# Altium schematic symbol library kmilo17pet-LT_PMIC_LT.SchLib: 2252 symbols (part 10 of 124)
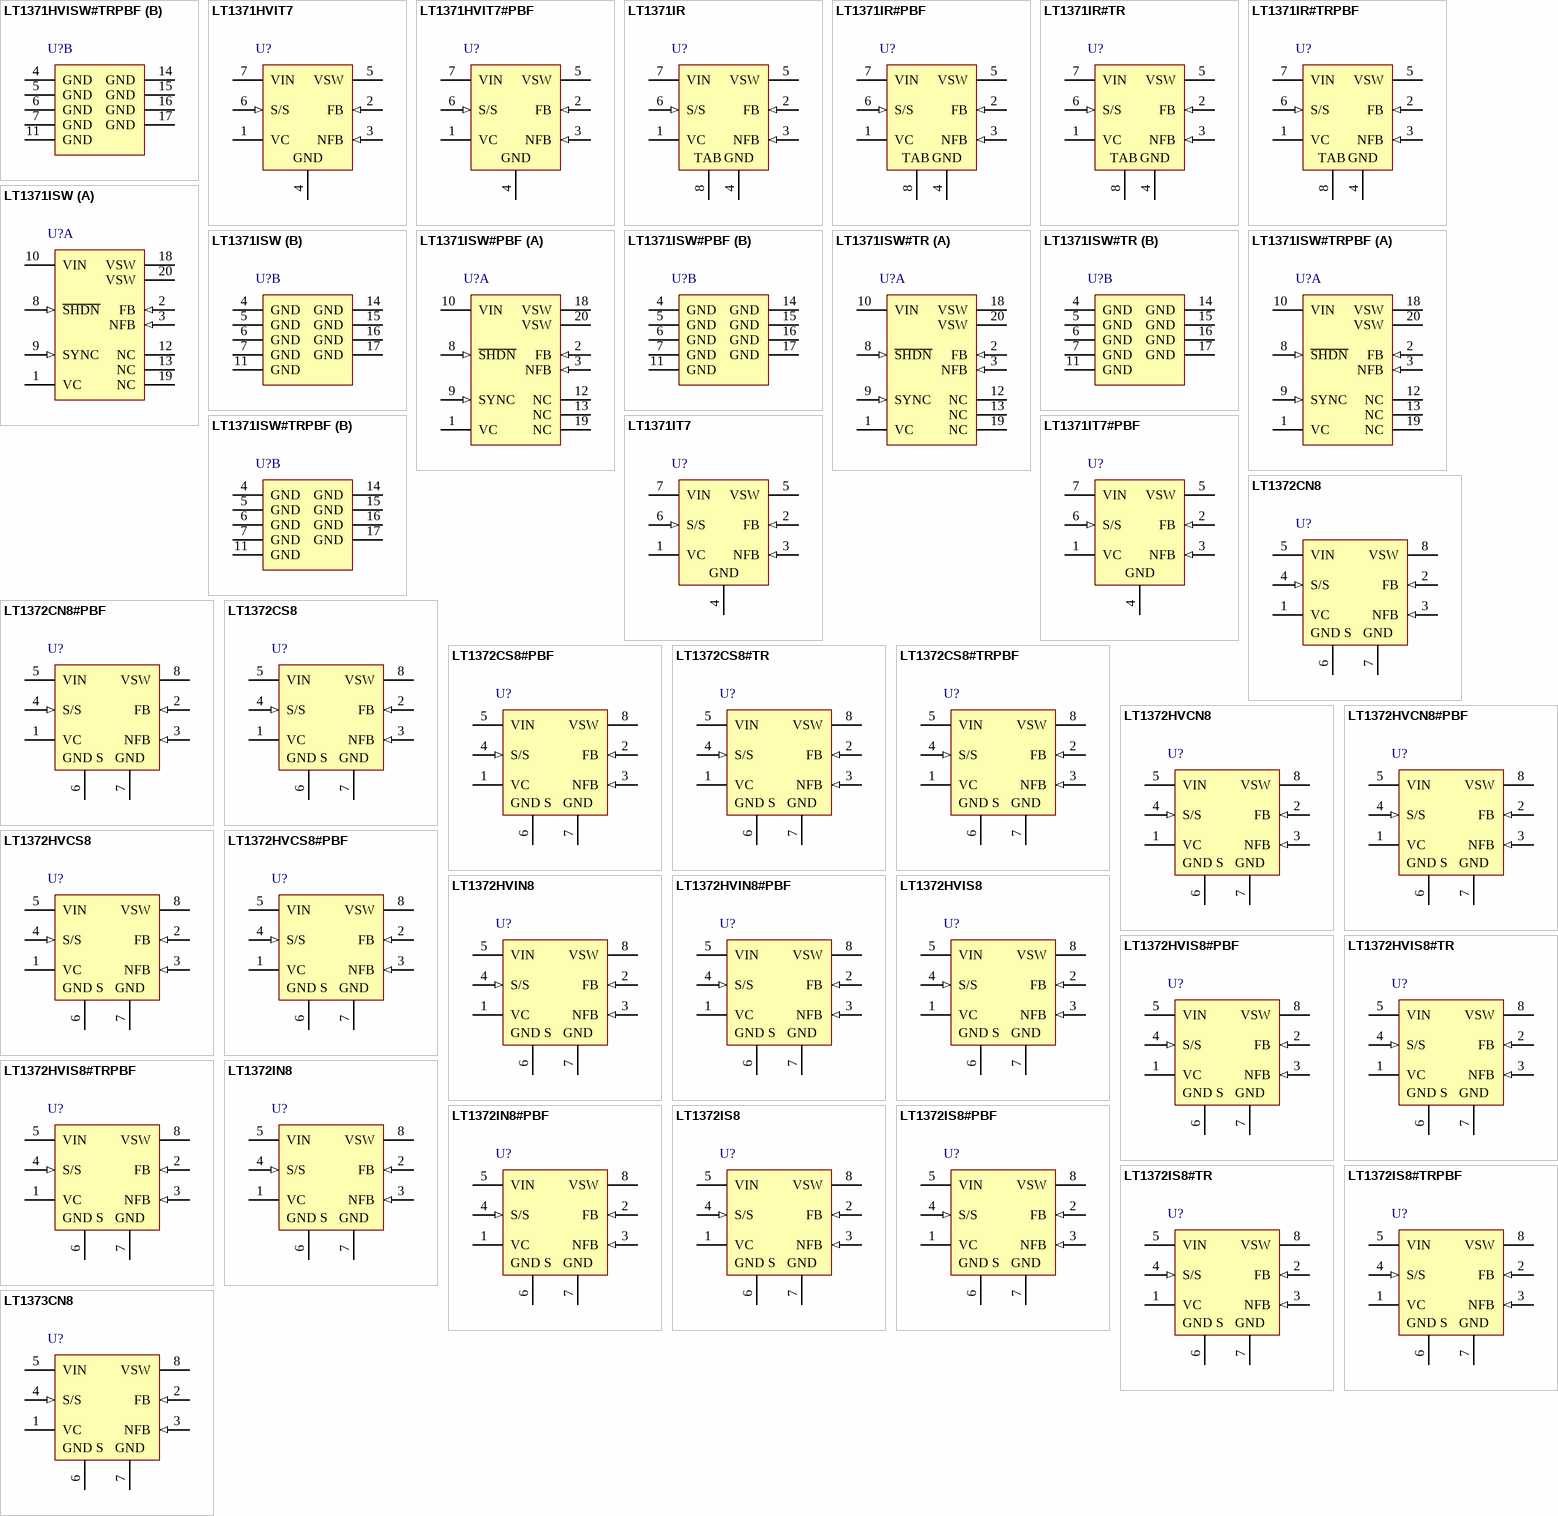
[diagram p80: symbols LT1371HVISW#TRPBF to LT1373CN8]

## LT1372CS8#TRPBF
designator U?
500 kHz High Efficiency 1.5 A Switching Regulator, 8-pin SOIC (S8-8), 0 to 125 degC, Pb-Free, Tape and Reel; Manufacturer: Linear Technology; PartNumber: LT1372CS8#TRPBF; Number of Outputs: 1; PackageReference: S8-8; PackageDescription: 8-Pin Plastic Small Outline (Narrow .150 Inch), Body 4.9 x 3.9 mm, Pitch 1.27 mm; Supplier 1: Digi-Key; Supplier Part Number 1: LT1372CS8#TRPBF-ND; RoHS: TRUE
footprint LT-S8-8_N (SOIC, 8-Leads, Body 5x4mm, Pitch 1.27mm, IPC Medium Density)
footprint LT-S8-8_L (SOIC, 8-Leads, Body 5x4mm, Pitch 1.27mm, IPC High Density)
footprint LT-S8-8_M (SOIC, 8-Leads, Body 5x4mm, Pitch 1.27mm, IPC Low Density)
pins: 1 VC "The compensation pin is used for frequency compensation, current limiting and soft start. It is the output of the error amplifier and the input of the current comparator. Loop frequency compensation can be performed with an (See Datasheet)", 2 FB (in) "The feedback pin is used for positive output voltage sensing and oscillator frequency shifting. It is the inverting input to the error amplifier. The noninverting input of this amplifier is internally tied to a 1.245V (See Datasheet)", 3 NFB (in), 4 S/S (in) "Shutdown and Synchronization Pin. The S/S pin is logic level compatible. Shutdown is active low and the shutdown threshold is typically 1.3V. For normal operation, pull the S/S pin high, tie it to VIN or leave it floating. (See Datasheet)", 5 VIN (power) "Bypass input supply pin with 10uF or more. The part goes into undervoltage lockout when VIN drops below 2.5V. Undervoltage lockout stops switching and pulls the VC pin low.", 6 GND S (power) "The ground sense pin is a ¡°clean¡± ground. The internal reference, error amplifier and negative feedback amplifier are referred to the ground sense pin. Connect it to ground. Keep the ground path connection to the out(See Datasheet)", 7 GND (power) "The ground pin is the emitter connection of the power switch and has large currents flowing through it. It should be connected directly to a good quality ground plane.", 8 VSW (power) "The switch pin is the collector of the power switch and has large currents flowing through it. Keep the traces to the switching components as short as possible to minimize radiation and voltage spikes."

## LT1372HVCN8
designator U?
500 kHz High Efficiency 1.5 A Switching Regulator, 8-pin DIP (N8-8), 0 to 125 degC; Manufacturer: Linear Technology; PartNumber: LT1372HVCN8; Number of Outputs: 1; PackageReference: N8-8; PackageDescription: 8-Pin PDIP, Body 10.16 x 6.48 mm, Pitch 2.54 mm; Supplier 1: Digi-Key; Supplier Part Number 1: LT1372HVCN8-ND; RoHS: FALSE
footprint LT-N8-8 (DIP, 8-Leads, Body 10.15x6.85mm, Pitch 2.54mm)
pins: 1 VC "The compensation pin is used for frequency compensation, current limiting and soft start. It is the output of the error amplifier and the input of the current comparator. Loop frequency compensation can be performed with an (See Datasheet)", 2 FB (in) "The feedback pin is used for positive output voltage sensing and oscillator frequency shifting. It is the inverting input to the error amplifier. The noninverting input of this amplifier is internally tied to a 1.245V (See Datasheet)", 3 NFB (in), 4 S/S (in) "Shutdown and Synchronization Pin. The S/S pin is logic level compatible. Shutdown is active low and the shutdown threshold is typically 1.3V. For normal operation, pull the S/S pin high, tie it to VIN or leave it floating. (See Datasheet)", 5 VIN (power) "Bypass input supply pin with 10uF or more. The part goes into undervoltage lockout when VIN drops below 2.5V. Undervoltage lockout stops switching and pulls the VC pin low.", 6 GND S (power) "The ground sense pin is a ¡°clean¡± ground. The internal reference, error amplifier and negative feedback amplifier are referred to the ground sense pin. Connect it to ground. Keep the ground path connection to the out(See Datasheet)", 7 GND (power) "The ground pin is the emitter connection of the power switch and has large currents flowing through it. It should be connected directly to a good quality ground plane.", 8 VSW (power) "The switch pin is the collector of the power switch and has large currents flowing through it. Keep the traces to the switching components as short as possible to minimize radiation and voltage spikes."

## LT1372HVCN8#PBF
designator U?
500 kHz High Efficiency 1.5 A Switching Regulator, 8-pin DIP (N8-8), 0 to 125 degC, Pb-Free; Manufacturer: Linear Technology; PartNumber: LT1372HVCN8#PBF; Number of Outputs: 1; PackageReference: N8-8; PackageDescription: 8-Pin PDIP, Body 10.16 x 6.48 mm, Pitch 2.54 mm; Supplier 1: Digi-Key; Supplier Part Number 1: LT1372HVCN8#PBF-ND; RoHS: TRUE
footprint LT-N8-8 (DIP, 8-Leads, Body 10.15x6.85mm, Pitch 2.54mm)
pins: 1 VC "The compensation pin is used for frequency compensation, current limiting and soft start. It is the output of the error amplifier and the input of the current comparator. Loop frequency compensation can be performed with an (See Datasheet)", 2 FB (in) "The feedback pin is used for positive output voltage sensing and oscillator frequency shifting. It is the inverting input to the error amplifier. The noninverting input of this amplifier is internally tied to a 1.245V (See Datasheet)", 3 NFB (in), 4 S/S (in) "Shutdown and Synchronization Pin. The S/S pin is logic level compatible. Shutdown is active low and the shutdown threshold is typically 1.3V. For normal operation, pull the S/S pin high, tie it to VIN or leave it floating. (See Datasheet)", 5 VIN (power) "Bypass input supply pin with 10uF or more. The part goes into undervoltage lockout when VIN drops below 2.5V. Undervoltage lockout stops switching and pulls the VC pin low.", 6 GND S (power) "The ground sense pin is a ¡°clean¡± ground. The internal reference, error amplifier and negative feedback amplifier are referred to the ground sense pin. Connect it to ground. Keep the ground path connection to the out(See Datasheet)", 7 GND (power) "The ground pin is the emitter connection of the power switch and has large currents flowing through it. It should be connected directly to a good quality ground plane.", 8 VSW (power) "The switch pin is the collector of the power switch and has large currents flowing through it. Keep the traces to the switching components as short as possible to minimize radiation and voltage spikes."

## LT1372HVCS8
designator U?
500 kHz High Efficiency 1.5 A Switching Regulator, 8-pin SOIC (S8-8), 0 to 125 degC; Manufacturer: Linear Technology; PartNumber: LT1372HVCS8; Number of Outputs: 1; PackageReference: S8-8; PackageDescription: 8-Pin Plastic Small Outline (Narrow .150 Inch), Body 4.9 x 3.9 mm, Pitch 1.27 mm; Supplier 1: Digi-Key; Supplier Part Number 1: LT1372HVCS8-ND; RoHS: FALSE
footprint LT-S8-8_N (SOIC, 8-Leads, Body 5x4mm, Pitch 1.27mm, IPC Medium Density)
footprint LT-S8-8_L (SOIC, 8-Leads, Body 5x4mm, Pitch 1.27mm, IPC High Density)
footprint LT-S8-8_M (SOIC, 8-Leads, Body 5x4mm, Pitch 1.27mm, IPC Low Density)
pins: 1 VC "The compensation pin is used for frequency compensation, current limiting and soft start. It is the output of the error amplifier and the input of the current comparator. Loop frequency compensation can be performed with an (See Datasheet)", 2 FB (in) "The feedback pin is used for positive output voltage sensing and oscillator frequency shifting. It is the inverting input to the error amplifier. The noninverting input of this amplifier is internally tied to a 1.245V (See Datasheet)", 3 NFB (in), 4 S/S (in) "Shutdown and Synchronization Pin. The S/S pin is logic level compatible. Shutdown is active low and the shutdown threshold is typically 1.3V. For normal operation, pull the S/S pin high, tie it to VIN or leave it floating. (See Datasheet)", 5 VIN (power) "Bypass input supply pin with 10uF or more. The part goes into undervoltage lockout when VIN drops below 2.5V. Undervoltage lockout stops switching and pulls the VC pin low.", 6 GND S (power) "The ground sense pin is a ¡°clean¡± ground. The internal reference, error amplifier and negative feedback amplifier are referred to the ground sense pin. Connect it to ground. Keep the ground path connection to the out(See Datasheet)", 7 GND (power) "The ground pin is the emitter connection of the power switch and has large currents flowing through it. It should be connected directly to a good quality ground plane.", 8 VSW (power) "The switch pin is the collector of the power switch and has large currents flowing through it. Keep the traces to the switching components as short as possible to minimize radiation and voltage spikes."

## LT1372HVCS8#PBF
designator U?
500 kHz High Efficiency 1.5 A Switching Regulator, 8-pin SOIC (S8-8), 0 to 125 degC, Pb-Free; Manufacturer: Linear Technology; PartNumber: LT1372HVCS8#PBF; Number of Outputs: 1; PackageReference: S8-8; PackageDescription: 8-Pin Plastic Small Outline (Narrow .150 Inch), Body 4.9 x 3.9 mm, Pitch 1.27 mm; Supplier 1: Digi-Key; Supplier Part Number 1: LT1372HVCS8#PBF-ND; RoHS: TRUE
footprint LT-S8-8_N (SOIC, 8-Leads, Body 5x4mm, Pitch 1.27mm, IPC Medium Density)
footprint LT-S8-8_L (SOIC, 8-Leads, Body 5x4mm, Pitch 1.27mm, IPC High Density)
footprint LT-S8-8_M (SOIC, 8-Leads, Body 5x4mm, Pitch 1.27mm, IPC Low Density)
pins: 1 VC "The compensation pin is used for frequency compensation, current limiting and soft start. It is the output of the error amplifier and the input of the current comparator. Loop frequency compensation can be performed with an (See Datasheet)", 2 FB (in) "The feedback pin is used for positive output voltage sensing and oscillator frequency shifting. It is the inverting input to the error amplifier. The noninverting input of this amplifier is internally tied to a 1.245V (See Datasheet)", 3 NFB (in), 4 S/S (in) "Shutdown and Synchronization Pin. The S/S pin is logic level compatible. Shutdown is active low and the shutdown threshold is typically 1.3V. For normal operation, pull the S/S pin high, tie it to VIN or leave it floating. (See Datasheet)", 5 VIN (power) "Bypass input supply pin with 10uF or more. The part goes into undervoltage lockout when VIN drops below 2.5V. Undervoltage lockout stops switching and pulls the VC pin low.", 6 GND S (power) "The ground sense pin is a ¡°clean¡± ground. The internal reference, error amplifier and negative feedback amplifier are referred to the ground sense pin. Connect it to ground. Keep the ground path connection to the out(See Datasheet)", 7 GND (power) "The ground pin is the emitter connection of the power switch and has large currents flowing through it. It should be connected directly to a good quality ground plane.", 8 VSW (power) "The switch pin is the collector of the power switch and has large currents flowing through it. Keep the traces to the switching components as short as possible to minimize radiation and voltage spikes."

## LT1372HVIN8
designator U?
500 kHz High Efficiency 1.5 A Switching Regulator, 8-pin DIP (N8-8), -40 to 125 degC; Manufacturer: Linear Technology; PartNumber: LT1372HVIN8; Number of Outputs: 1; PackageReference: N8-8; PackageDescription: 8-Pin PDIP, Body 10.16 x 6.48 mm, Pitch 2.54 mm; Supplier 1: Digi-Key; Supplier Part Number 1: LT1372HVIN8-ND; RoHS: FALSE
footprint LT-N8-8 (DIP, 8-Leads, Body 10.15x6.85mm, Pitch 2.54mm)
pins: 1 VC "The compensation pin is used for frequency compensation, current limiting and soft start. It is the output of the error amplifier and the input of the current comparator. Loop frequency compensation can be performed with an (See Datasheet)", 2 FB (in) "The feedback pin is used for positive output voltage sensing and oscillator frequency shifting. It is the inverting input to the error amplifier. The noninverting input of this amplifier is internally tied to a 1.245V (See Datasheet)", 3 NFB (in), 4 S/S (in) "Shutdown and Synchronization Pin. The S/S pin is logic level compatible. Shutdown is active low and the shutdown threshold is typically 1.3V. For normal operation, pull the S/S pin high, tie it to VIN or leave it floating. (See Datasheet)", 5 VIN (power) "Bypass input supply pin with 10uF or more. The part goes into undervoltage lockout when VIN drops below 2.5V. Undervoltage lockout stops switching and pulls the VC pin low.", 6 GND S (power) "The ground sense pin is a ¡°clean¡± ground. The internal reference, error amplifier and negative feedback amplifier are referred to the ground sense pin. Connect it to ground. Keep the ground path connection to the out(See Datasheet)", 7 GND (power) "The ground pin is the emitter connection of the power switch and has large currents flowing through it. It should be connected directly to a good quality ground plane.", 8 VSW (power) "The switch pin is the collector of the power switch and has large currents flowing through it. Keep the traces to the switching components as short as possible to minimize radiation and voltage spikes."

## LT1372HVIN8#PBF
designator U?
500 kHz High Efficiency 1.5 A Switching Regulator, 8-pin DIP (N8-8), -40 to 125 degC, Pb-Free; Manufacturer: Linear Technology; PartNumber: LT1372HVIN8#PBF; Number of Outputs: 1; PackageReference: N8-8; PackageDescription: 8-Pin PDIP, Body 10.16 x 6.48 mm, Pitch 2.54 mm; Supplier 1: Digi-Key; Supplier Part Number 1: LT1372HVIN8#PBF-ND; RoHS: TRUE
footprint LT-N8-8 (DIP, 8-Leads, Body 10.15x6.85mm, Pitch 2.54mm)
pins: 1 VC "The compensation pin is used for frequency compensation, current limiting and soft start. It is the output of the error amplifier and the input of the current comparator. Loop frequency compensation can be performed with an (See Datasheet)", 2 FB (in) "The feedback pin is used for positive output voltage sensing and oscillator frequency shifting. It is the inverting input to the error amplifier. The noninverting input of this amplifier is internally tied to a 1.245V (See Datasheet)", 3 NFB (in), 4 S/S (in) "Shutdown and Synchronization Pin. The S/S pin is logic level compatible. Shutdown is active low and the shutdown threshold is typically 1.3V. For normal operation, pull the S/S pin high, tie it to VIN or leave it floating. (See Datasheet)", 5 VIN (power) "Bypass input supply pin with 10uF or more. The part goes into undervoltage lockout when VIN drops below 2.5V. Undervoltage lockout stops switching and pulls the VC pin low.", 6 GND S (power) "The ground sense pin is a ¡°clean¡± ground. The internal reference, error amplifier and negative feedback amplifier are referred to the ground sense pin. Connect it to ground. Keep the ground path connection to the out(See Datasheet)", 7 GND (power) "The ground pin is the emitter connection of the power switch and has large currents flowing through it. It should be connected directly to a good quality ground plane.", 8 VSW (power) "The switch pin is the collector of the power switch and has large currents flowing through it. Keep the traces to the switching components as short as possible to minimize radiation and voltage spikes."

## LT1372HVIS8
designator U?
500 kHz High Efficiency 1.5 A Switching Regulator, 8-pin SOIC (S8-8), -40 to 125 degC; Manufacturer: Linear Technology; PartNumber: LT1372HVIS8; Number of Outputs: 1; PackageReference: S8-8; PackageDescription: 8-Pin Plastic Small Outline (Narrow .150 Inch), Body 4.9 x 3.9 mm, Pitch 1.27 mm; Supplier 1: Digi-Key; Supplier Part Number 1: LT1372HVIS8-ND; RoHS: FALSE
footprint LT-S8-8_N (SOIC, 8-Leads, Body 5x4mm, Pitch 1.27mm, IPC Medium Density)
footprint LT-S8-8_L (SOIC, 8-Leads, Body 5x4mm, Pitch 1.27mm, IPC High Density)
footprint LT-S8-8_M (SOIC, 8-Leads, Body 5x4mm, Pitch 1.27mm, IPC Low Density)
pins: 1 VC "The compensation pin is used for frequency compensation, current limiting and soft start. It is the output of the error amplifier and the input of the current comparator. Loop frequency compensation can be performed with an (See Datasheet)", 2 FB (in) "The feedback pin is used for positive output voltage sensing and oscillator frequency shifting. It is the inverting input to the error amplifier. The noninverting input of this amplifier is internally tied to a 1.245V (See Datasheet)", 3 NFB (in), 4 S/S (in) "Shutdown and Synchronization Pin. The S/S pin is logic level compatible. Shutdown is active low and the shutdown threshold is typically 1.3V. For normal operation, pull the S/S pin high, tie it to VIN or leave it floating. (See Datasheet)", 5 VIN (power) "Bypass input supply pin with 10uF or more. The part goes into undervoltage lockout when VIN drops below 2.5V. Undervoltage lockout stops switching and pulls the VC pin low.", 6 GND S (power) "The ground sense pin is a ¡°clean¡± ground. The internal reference, error amplifier and negative feedback amplifier are referred to the ground sense pin. Connect it to ground. Keep the ground path connection to the out(See Datasheet)", 7 GND (power) "The ground pin is the emitter connection of the power switch and has large currents flowing through it. It should be connected directly to a good quality ground plane.", 8 VSW (power) "The switch pin is the collector of the power switch and has large currents flowing through it. Keep the traces to the switching components as short as possible to minimize radiation and voltage spikes."

## LT1372HVIS8#PBF
designator U?
500 kHz High Efficiency 1.5 A Switching Regulator, 8-pin SOIC (S8-8), -40 to 125 degC, Pb-Free; Manufacturer: Linear Technology; PartNumber: LT1372HVIS8#PBF; Number of Outputs: 1; PackageReference: S8-8; PackageDescription: 8-Pin Plastic Small Outline (Narrow .150 Inch), Body 4.9 x 3.9 mm, Pitch 1.27 mm; Supplier 1: Digi-Key; Supplier Part Number 1: LT1372HVIS8#PBF-ND; RoHS: TRUE
footprint LT-S8-8_N (SOIC, 8-Leads, Body 5x4mm, Pitch 1.27mm, IPC Medium Density)
footprint LT-S8-8_L (SOIC, 8-Leads, Body 5x4mm, Pitch 1.27mm, IPC High Density)
footprint LT-S8-8_M (SOIC, 8-Leads, Body 5x4mm, Pitch 1.27mm, IPC Low Density)
pins: 1 VC "The compensation pin is used for frequency compensation, current limiting and soft start. It is the output of the error amplifier and the input of the current comparator. Loop frequency compensation can be performed with an (See Datasheet)", 2 FB (in) "The feedback pin is used for positive output voltage sensing and oscillator frequency shifting. It is the inverting input to the error amplifier. The noninverting input of this amplifier is internally tied to a 1.245V (See Datasheet)", 3 NFB (in), 4 S/S (in) "Shutdown and Synchronization Pin. The S/S pin is logic level compatible. Shutdown is active low and the shutdown threshold is typically 1.3V. For normal operation, pull the S/S pin high, tie it to VIN or leave it floating. (See Datasheet)", 5 VIN (power) "Bypass input supply pin with 10uF or more. The part goes into undervoltage lockout when VIN drops below 2.5V. Undervoltage lockout stops switching and pulls the VC pin low.", 6 GND S (power) "The ground sense pin is a ¡°clean¡± ground. The internal reference, error amplifier and negative feedback amplifier are referred to the ground sense pin. Connect it to ground. Keep the ground path connection to the out(See Datasheet)", 7 GND (power) "The ground pin is the emitter connection of the power switch and has large currents flowing through it. It should be connected directly to a good quality ground plane.", 8 VSW (power) "The switch pin is the collector of the power switch and has large currents flowing through it. Keep the traces to the switching components as short as possible to minimize radiation and voltage spikes."

## LT1372HVIS8#TR
designator U?
500 kHz High Efficiency 1.5 A Switching Regulator, 8-pin SOIC (S8-8), -40 to 125 degC, Tape and Reel; Manufacturer: Linear Technology; PartNumber: LT1372HVIS8#TR; Number of Outputs: 1; PackageReference: S8-8; PackageDescription: 8-Pin Plastic Small Outline (Narrow .150 Inch), Body 4.9 x 3.9 mm, Pitch 1.27 mm; Supplier 1: Digi-Key; Supplier Part Number 1: LT1372HVIS8#TR-ND; RoHS: FALSE
footprint LT-S8-8_N (SOIC, 8-Leads, Body 5x4mm, Pitch 1.27mm, IPC Medium Density)
footprint LT-S8-8_L (SOIC, 8-Leads, Body 5x4mm, Pitch 1.27mm, IPC High Density)
footprint LT-S8-8_M (SOIC, 8-Leads, Body 5x4mm, Pitch 1.27mm, IPC Low Density)
pins: 1 VC "The compensation pin is used for frequency compensation, current limiting and soft start. It is the output of the error amplifier and the input of the current comparator. Loop frequency compensation can be performed with an (See Datasheet)", 2 FB (in) "The feedback pin is used for positive output voltage sensing and oscillator frequency shifting. It is the inverting input to the error amplifier. The noninverting input of this amplifier is internally tied to a 1.245V (See Datasheet)", 3 NFB (in), 4 S/S (in) "Shutdown and Synchronization Pin. The S/S pin is logic level compatible. Shutdown is active low and the shutdown threshold is typically 1.3V. For normal operation, pull the S/S pin high, tie it to VIN or leave it floating. (See Datasheet)", 5 VIN (power) "Bypass input supply pin with 10uF or more. The part goes into undervoltage lockout when VIN drops below 2.5V. Undervoltage lockout stops switching and pulls the VC pin low.", 6 GND S (power) "The ground sense pin is a ¡°clean¡± ground. The internal reference, error amplifier and negative feedback amplifier are referred to the ground sense pin. Connect it to ground. Keep the ground path connection to the out(See Datasheet)", 7 GND (power) "The ground pin is the emitter connection of the power switch and has large currents flowing through it. It should be connected directly to a good quality ground plane.", 8 VSW (power) "The switch pin is the collector of the power switch and has large currents flowing through it. Keep the traces to the switching components as short as possible to minimize radiation and voltage spikes."

## LT1372HVIS8#TRPBF
designator U?
500 kHz High Efficiency 1.5 A Switching Regulator, 8-pin SOIC (S8-8), -40 to 125 degC, Pb-Free, Tape and Reel; Manufacturer: Linear Technology; PartNumber: LT1372HVIS8#TRPBF; Number of Outputs: 1; PackageReference: S8-8; PackageDescription: 8-Pin Plastic Small Outline (Narrow .150 Inch), Body 4.9 x 3.9 mm, Pitch 1.27 mm; Supplier 1: Digi-Key; Supplier Part Number 1: LT1372HVIS8#TRPBF-ND; RoHS: TRUE
footprint LT-S8-8_N (SOIC, 8-Leads, Body 5x4mm, Pitch 1.27mm, IPC Medium Density)
footprint LT-S8-8_L (SOIC, 8-Leads, Body 5x4mm, Pitch 1.27mm, IPC High Density)
footprint LT-S8-8_M (SOIC, 8-Leads, Body 5x4mm, Pitch 1.27mm, IPC Low Density)
pins: 1 VC "The compensation pin is used for frequency compensation, current limiting and soft start. It is the output of the error amplifier and the input of the current comparator. Loop frequency compensation can be performed with an (See Datasheet)", 2 FB (in) "The feedback pin is used for positive output voltage sensing and oscillator frequency shifting. It is the inverting input to the error amplifier. The noninverting input of this amplifier is internally tied to a 1.245V (See Datasheet)", 3 NFB (in), 4 S/S (in) "Shutdown and Synchronization Pin. The S/S pin is logic level compatible. Shutdown is active low and the shutdown threshold is typically 1.3V. For normal operation, pull the S/S pin high, tie it to VIN or leave it floating. (See Datasheet)", 5 VIN (power) "Bypass input supply pin with 10uF or more. The part goes into undervoltage lockout when VIN drops below 2.5V. Undervoltage lockout stops switching and pulls the VC pin low.", 6 GND S (power) "The ground sense pin is a ¡°clean¡± ground. The internal reference, error amplifier and negative feedback amplifier are referred to the ground sense pin. Connect it to ground. Keep the ground path connection to the out(See Datasheet)", 7 GND (power) "The ground pin is the emitter connection of the power switch and has large currents flowing through it. It should be connected directly to a good quality ground plane.", 8 VSW (power) "The switch pin is the collector of the power switch and has large currents flowing through it. Keep the traces to the switching components as short as possible to minimize radiation and voltage spikes."

## LT1372IN8
designator U?
500 kHz High Efficiency 1.5 A Switching Regulator, 8-pin DIP (N8-8), -40 to 125 degC; Manufacturer: Linear Technology; PartNumber: LT1372IN8; Number of Outputs: 1; PackageReference: N8-8; PackageDescription: 8-Pin PDIP, Body 10.16 x 6.48 mm, Pitch 2.54 mm; Supplier 1: Digi-Key; Supplier Part Number 1: LT1372IN8-ND; RoHS: FALSE
footprint LT-N8-8 (DIP, 8-Leads, Body 10.15x6.85mm, Pitch 2.54mm)
pins: 1 VC "The compensation pin is used for frequency compensation, current limiting and soft start. It is the output of the error amplifier and the input of the current comparator. Loop frequency compensation can be performed with an (See Datasheet)", 2 FB (in) "The feedback pin is used for positive output voltage sensing and oscillator frequency shifting. It is the inverting input to the error amplifier. The noninverting input of this amplifier is internally tied to a 1.245V (See Datasheet)", 3 NFB (in), 4 S/S (in) "Shutdown and Synchronization Pin. The S/S pin is logic level compatible. Shutdown is active low and the shutdown threshold is typically 1.3V. For normal operation, pull the S/S pin high, tie it to VIN or leave it floating. (See Datasheet)", 5 VIN (power) "Bypass input supply pin with 10uF or more. The part goes into undervoltage lockout when VIN drops below 2.5V. Undervoltage lockout stops switching and pulls the VC pin low.", 6 GND S (power) "The ground sense pin is a ¡°clean¡± ground. The internal reference, error amplifier and negative feedback amplifier are referred to the ground sense pin. Connect it to ground. Keep the ground path connection to the out(See Datasheet)", 7 GND (power) "The ground pin is the emitter connection of the power switch and has large currents flowing through it. It should be connected directly to a good quality ground plane.", 8 VSW (power) "The switch pin is the collector of the power switch and has large currents flowing through it. Keep the traces to the switching components as short as possible to minimize radiation and voltage spikes."

## LT1372IN8#PBF
designator U?
500 kHz High Efficiency 1.5 A Switching Regulator, 8-pin DIP (N8-8), -40 to 125 degC, Pb-Free; Manufacturer: Linear Technology; PartNumber: LT1372IN8#PBF; Number of Outputs: 1; PackageReference: N8-8; PackageDescription: 8-Pin PDIP, Body 10.16 x 6.48 mm, Pitch 2.54 mm; Supplier 1: Digi-Key; Supplier Part Number 1: LT1372IN8#PBF-ND; RoHS: TRUE
footprint LT-N8-8 (DIP, 8-Leads, Body 10.15x6.85mm, Pitch 2.54mm)
pins: 1 VC "The compensation pin is used for frequency compensation, current limiting and soft start. It is the output of the error amplifier and the input of the current comparator. Loop frequency compensation can be performed with an (See Datasheet)", 2 FB (in) "The feedback pin is used for positive output voltage sensing and oscillator frequency shifting. It is the inverting input to the error amplifier. The noninverting input of this amplifier is internally tied to a 1.245V (See Datasheet)", 3 NFB (in), 4 S/S (in) "Shutdown and Synchronization Pin. The S/S pin is logic level compatible. Shutdown is active low and the shutdown threshold is typically 1.3V. For normal operation, pull the S/S pin high, tie it to VIN or leave it floating. (See Datasheet)", 5 VIN (power) "Bypass input supply pin with 10uF or more. The part goes into undervoltage lockout when VIN drops below 2.5V. Undervoltage lockout stops switching and pulls the VC pin low.", 6 GND S (power) "The ground sense pin is a ¡°clean¡± ground. The internal reference, error amplifier and negative feedback amplifier are referred to the ground sense pin. Connect it to ground. Keep the ground path connection to the out(See Datasheet)", 7 GND (power) "The ground pin is the emitter connection of the power switch and has large currents flowing through it. It should be connected directly to a good quality ground plane.", 8 VSW (power) "The switch pin is the collector of the power switch and has large currents flowing through it. Keep the traces to the switching components as short as possible to minimize radiation and voltage spikes."

## LT1372IS8
designator U?
500 kHz High Efficiency 1.5 A Switching Regulator, 8-pin SOIC (S8-8), -40 to 125 degC; Manufacturer: Linear Technology; PartNumber: LT1372IS8; Number of Outputs: 1; PackageReference: S8-8; PackageDescription: 8-Pin Plastic Small Outline (Narrow .150 Inch), Body 4.9 x 3.9 mm, Pitch 1.27 mm; Supplier 1: Digi-Key; Supplier Part Number 1: LT1372IS8-ND; RoHS: FALSE
footprint LT-S8-8_N (SOIC, 8-Leads, Body 5x4mm, Pitch 1.27mm, IPC Medium Density)
footprint LT-S8-8_L (SOIC, 8-Leads, Body 5x4mm, Pitch 1.27mm, IPC High Density)
footprint LT-S8-8_M (SOIC, 8-Leads, Body 5x4mm, Pitch 1.27mm, IPC Low Density)
pins: 1 VC "The compensation pin is used for frequency compensation, current limiting and soft start. It is the output of the error amplifier and the input of the current comparator. Loop frequency compensation can be performed with an (See Datasheet)", 2 FB (in) "The feedback pin is used for positive output voltage sensing and oscillator frequency shifting. It is the inverting input to the error amplifier. The noninverting input of this amplifier is internally tied to a 1.245V (See Datasheet)", 3 NFB (in), 4 S/S (in) "Shutdown and Synchronization Pin. The S/S pin is logic level compatible. Shutdown is active low and the shutdown threshold is typically 1.3V. For normal operation, pull the S/S pin high, tie it to VIN or leave it floating. (See Datasheet)", 5 VIN (power) "Bypass input supply pin with 10uF or more. The part goes into undervoltage lockout when VIN drops below 2.5V. Undervoltage lockout stops switching and pulls the VC pin low.", 6 GND S (power) "The ground sense pin is a ¡°clean¡± ground. The internal reference, error amplifier and negative feedback amplifier are referred to the ground sense pin. Connect it to ground. Keep the ground path connection to the out(See Datasheet)", 7 GND (power) "The ground pin is the emitter connection of the power switch and has large currents flowing through it. It should be connected directly to a good quality ground plane.", 8 VSW (power) "The switch pin is the collector of the power switch and has large currents flowing through it. Keep the traces to the switching components as short as possible to minimize radiation and voltage spikes."

## LT1372IS8#PBF
designator U?
500 kHz High Efficiency 1.5 A Switching Regulator, 8-pin SOIC (S8-8), -40 to 125 degC, Pb-Free; Manufacturer: Linear Technology; PartNumber: LT1372IS8#PBF; Number of Outputs: 1; PackageReference: S8-8; PackageDescription: 8-Pin Plastic Small Outline (Narrow .150 Inch), Body 4.9 x 3.9 mm, Pitch 1.27 mm; Supplier 1: Digi-Key; Supplier Part Number 1: LT1372IS8#PBF-ND; RoHS: TRUE
footprint LT-S8-8_N (SOIC, 8-Leads, Body 5x4mm, Pitch 1.27mm, IPC Medium Density)
footprint LT-S8-8_L (SOIC, 8-Leads, Body 5x4mm, Pitch 1.27mm, IPC High Density)
footprint LT-S8-8_M (SOIC, 8-Leads, Body 5x4mm, Pitch 1.27mm, IPC Low Density)
pins: 1 VC "The compensation pin is used for frequency compensation, current limiting and soft start. It is the output of the error amplifier and the input of the current comparator. Loop frequency compensation can be performed with an (See Datasheet)", 2 FB (in) "The feedback pin is used for positive output voltage sensing and oscillator frequency shifting. It is the inverting input to the error amplifier. The noninverting input of this amplifier is internally tied to a 1.245V (See Datasheet)", 3 NFB (in), 4 S/S (in) "Shutdown and Synchronization Pin. The S/S pin is logic level compatible. Shutdown is active low and the shutdown threshold is typically 1.3V. For normal operation, pull the S/S pin high, tie it to VIN or leave it floating. (See Datasheet)", 5 VIN (power) "Bypass input supply pin with 10uF or more. The part goes into undervoltage lockout when VIN drops below 2.5V. Undervoltage lockout stops switching and pulls the VC pin low.", 6 GND S (power) "The ground sense pin is a ¡°clean¡± ground. The internal reference, error amplifier and negative feedback amplifier are referred to the ground sense pin. Connect it to ground. Keep the ground path connection to the out(See Datasheet)", 7 GND (power) "The ground pin is the emitter connection of the power switch and has large currents flowing through it. It should be connected directly to a good quality ground plane.", 8 VSW (power) "The switch pin is the collector of the power switch and has large currents flowing through it. Keep the traces to the switching components as short as possible to minimize radiation and voltage spikes."

## LT1372IS8#TR
designator U?
500 kHz High Efficiency 1.5 A Switching Regulator, 8-pin SOIC (S8-8), -40 to 125 degC, Tape and Reel; Manufacturer: Linear Technology; PartNumber: LT1372IS8#TR; Number of Outputs: 1; PackageReference: S8-8; PackageDescription: 8-Pin Plastic Small Outline (Narrow .150 Inch), Body 4.9 x 3.9 mm, Pitch 1.27 mm; Supplier 1: Digi-Key; Supplier Part Number 1: LT1372IS8#TR-ND; RoHS: FALSE
footprint LT-S8-8_N (SOIC, 8-Leads, Body 5x4mm, Pitch 1.27mm, IPC Medium Density)
footprint LT-S8-8_L (SOIC, 8-Leads, Body 5x4mm, Pitch 1.27mm, IPC High Density)
footprint LT-S8-8_M (SOIC, 8-Leads, Body 5x4mm, Pitch 1.27mm, IPC Low Density)
pins: 1 VC "The compensation pin is used for frequency compensation, current limiting and soft start. It is the output of the error amplifier and the input of the current comparator. Loop frequency compensation can be performed with an (See Datasheet)", 2 FB (in) "The feedback pin is used for positive output voltage sensing and oscillator frequency shifting. It is the inverting input to the error amplifier. The noninverting input of this amplifier is internally tied to a 1.245V (See Datasheet)", 3 NFB (in), 4 S/S (in) "Shutdown and Synchronization Pin. The S/S pin is logic level compatible. Shutdown is active low and the shutdown threshold is typically 1.3V. For normal operation, pull the S/S pin high, tie it to VIN or leave it floating. (See Datasheet)", 5 VIN (power) "Bypass input supply pin with 10uF or more. The part goes into undervoltage lockout when VIN drops below 2.5V. Undervoltage lockout stops switching and pulls the VC pin low.", 6 GND S (power) "The ground sense pin is a ¡°clean¡± ground. The internal reference, error amplifier and negative feedback amplifier are referred to the ground sense pin. Connect it to ground. Keep the ground path connection to the out(See Datasheet)", 7 GND (power) "The ground pin is the emitter connection of the power switch and has large currents flowing through it. It should be connected directly to a good quality ground plane.", 8 VSW (power) "The switch pin is the collector of the power switch and has large currents flowing through it. Keep the traces to the switching components as short as possible to minimize radiation and voltage spikes."

## LT1372IS8#TRPBF
designator U?
500 kHz High Efficiency 1.5 A Switching Regulator, 8-pin SOIC (S8-8), -40 to 125 degC, Pb-Free, Tape and Reel; Manufacturer: Linear Technology; PartNumber: LT1372IS8#TRPBF; Number of Outputs: 1; PackageReference: S8-8; PackageDescription: 8-Pin Plastic Small Outline (Narrow .150 Inch), Body 4.9 x 3.9 mm, Pitch 1.27 mm; Supplier 1: Digi-Key; Supplier Part Number 1: LT1372IS8#TRPBF-ND; RoHS: TRUE
footprint LT-S8-8_N (SOIC, 8-Leads, Body 5x4mm, Pitch 1.27mm, IPC Medium Density)
footprint LT-S8-8_L (SOIC, 8-Leads, Body 5x4mm, Pitch 1.27mm, IPC High Density)
footprint LT-S8-8_M (SOIC, 8-Leads, Body 5x4mm, Pitch 1.27mm, IPC Low Density)
pins: 1 VC "The compensation pin is used for frequency compensation, current limiting and soft start. It is the output of the error amplifier and the input of the current comparator. Loop frequency compensation can be performed with an (See Datasheet)", 2 FB (in) "The feedback pin is used for positive output voltage sensing and oscillator frequency shifting. It is the inverting input to the error amplifier. The noninverting input of this amplifier is internally tied to a 1.245V (See Datasheet)", 3 NFB (in), 4 S/S (in) "Shutdown and Synchronization Pin. The S/S pin is logic level compatible. Shutdown is active low and the shutdown threshold is typically 1.3V. For normal operation, pull the S/S pin high, tie it to VIN or leave it floating. (See Datasheet)", 5 VIN (power) "Bypass input supply pin with 10uF or more. The part goes into undervoltage lockout when VIN drops below 2.5V. Undervoltage lockout stops switching and pulls the VC pin low.", 6 GND S (power) "The ground sense pin is a ¡°clean¡± ground. The internal reference, error amplifier and negative feedback amplifier are referred to the ground sense pin. Connect it to ground. Keep the ground path connection to the out(See Datasheet)", 7 GND (power) "The ground pin is the emitter connection of the power switch and has large currents flowing through it. It should be connected directly to a good quality ground plane.", 8 VSW (power) "The switch pin is the collector of the power switch and has large currents flowing through it. Keep the traces to the switching components as short as possible to minimize radiation and voltage spikes."

## LT1373CN8
designator U?
250 kHz Low Supply Current High Efficiency 1.5 A Switching Regulator, 8-pin DIP (N8-8), 0 to 125 degC; Manufacturer: Linear Technology; PartNumber: LT1373CN8; Number of Outputs: 1; PackageReference: N8-8; PackageDescription: 8-Pin PDIP, Body 10.16 x 6.48 mm, Pitch 2.54 mm; RoHS: FALSE
footprint LT-N8-8 (DIP, 8-Leads, Body 10.15x6.85mm, Pitch 2.54mm)
pins: 1 VC "The compensation pin is used for frequency compensation, current limiting and soft start. It is the output of the error amplifier and the input of the current comparator. Loop frequency compensation can be performed with an (See Datasheet)", 2 FB (in) "The feedback pin is used for positive output voltage sensing and oscillator frequency shifting. It is the inverting input to the error amplifier. The noninverting input of this amplifier is internally tied to a 1.245V (See Datasheet)", 3 NFB (in), 4 S/S (in) "Shutdown and Synchronization Pin. The S/S pin is logic level compatible. Shutdown is active low and the shutdown threshold is typically 1.3V. For normal operation, pull the S/S pin high, tie it to VIN or leave it floating. (See Datasheet)", 5 VIN (power) "Bypass input supply pin with 10uF or more. The part goes into undervoltage lockout when VIN drops below 2.5V. Undervoltage lockout stops switching and pulls the VC pin low.", 6 GND S (power) "The ground sense pin is a ¡°clean¡± ground. The internal reference, error amplifier and negative feedback amplifier are referred to the ground sense pin. Connect it to ground. Keep the ground path connection to the out(See Datasheet)", 7 GND (power) "The ground pin is the emitter connection of the power switch and has large currents flowing through it. It should be connected directly to a good quality ground plane.", 8 VSW (power) "The switch pin is the collector of the power switch and has large currents flowing through it. Keep the traces to the switching components as short as possible to minimize radiation and voltage spikes."

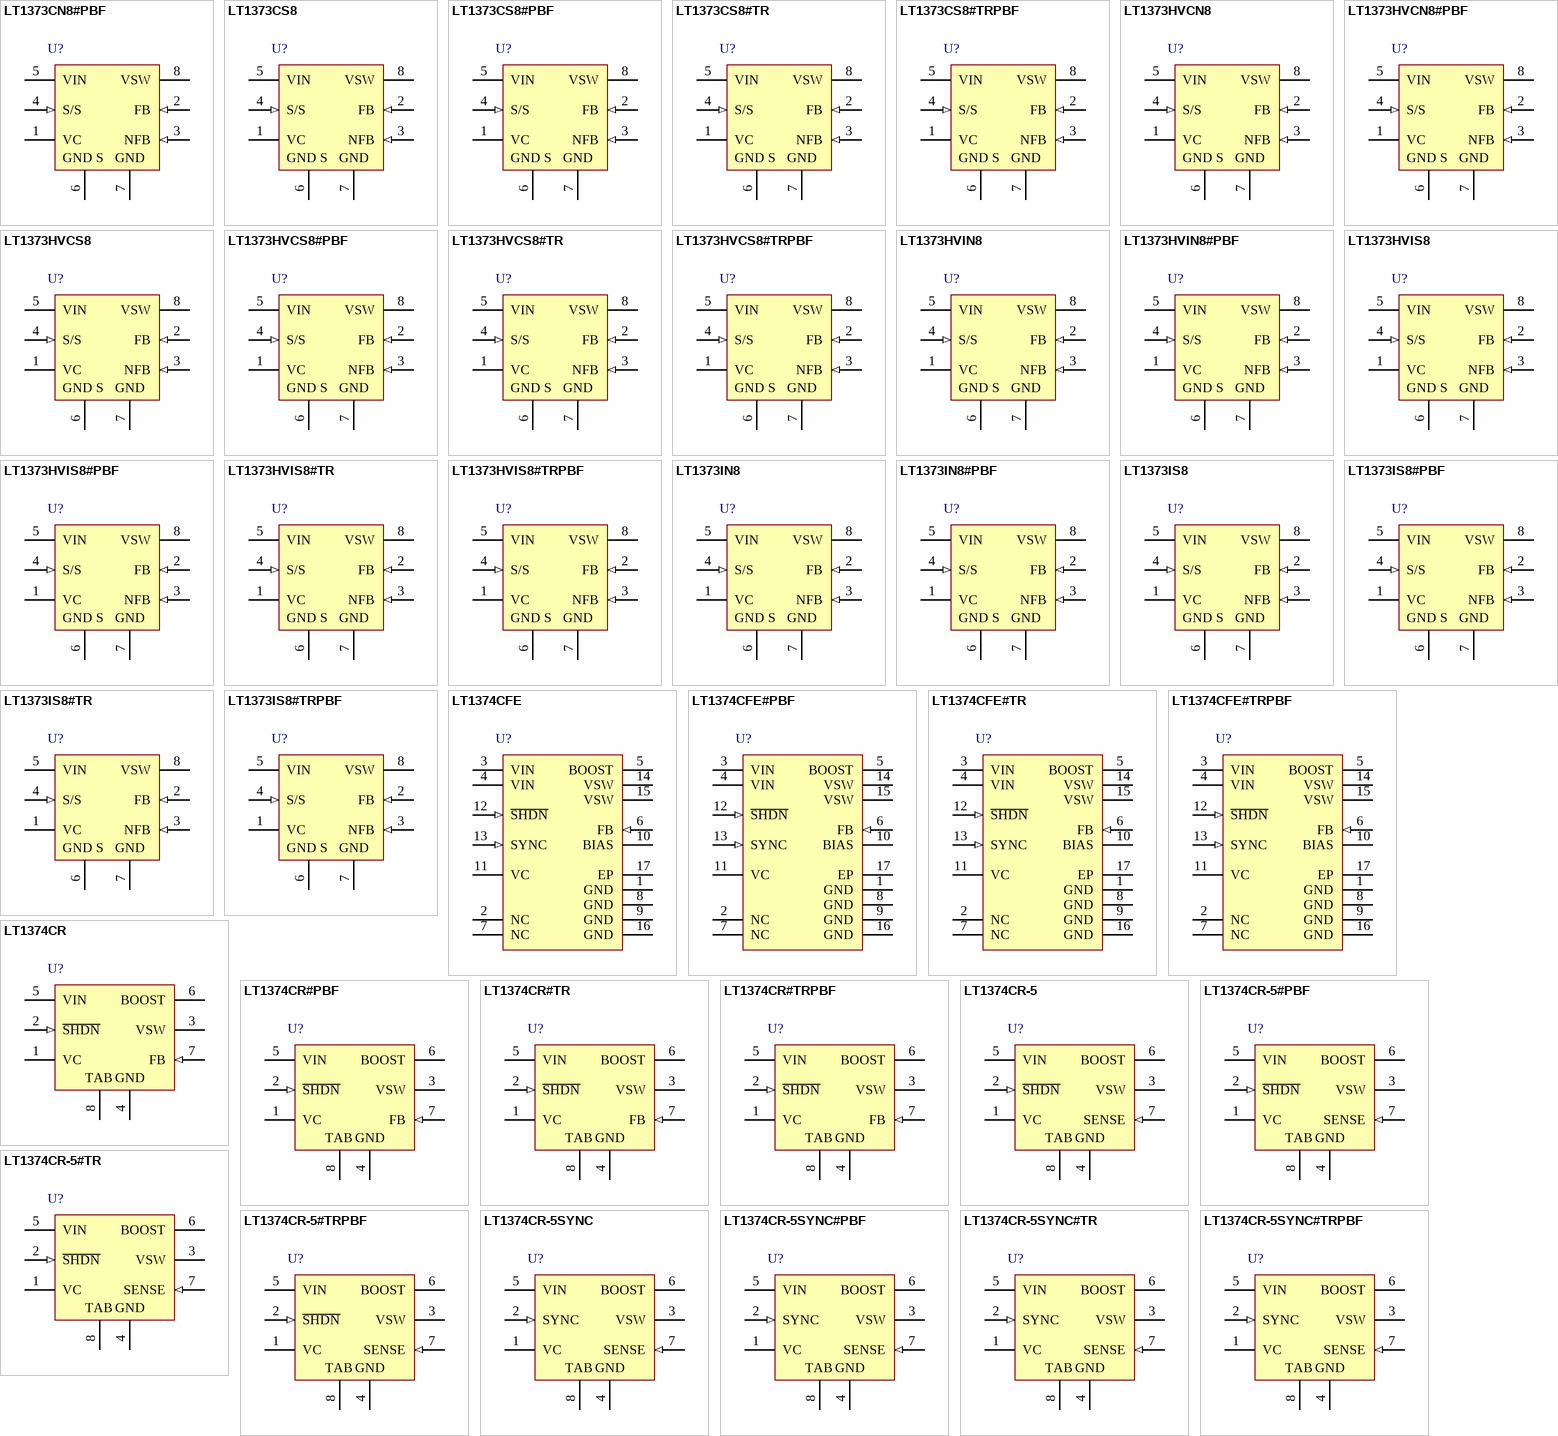
[diagram p9: symbols LT1373CN8#PBF to LT1374CR-5SYNC#TRPBF]

## LT1373CN8#PBF
designator U?
250 kHz Low Supply Current High Efficiency 1.5 A Switching Regulator, 8-pin DIP (N8-8), 0 to 125 degC, Pb-Free; Manufacturer: Linear Technology; PartNumber: LT1373CN8#PBF; Number of Outputs: 1; PackageReference: N8-8; PackageDescription: 8-Pin PDIP, Body 10.16 x 6.48 mm, Pitch 2.54 mm; Supplier 1: Digi-Key; Supplier Part Number 1: LT1373CN8#PBF-ND; RoHS: TRUE
footprint LT-N8-8 (DIP, 8-Leads, Body 10.15x6.85mm, Pitch 2.54mm)
pins: 1 VC "The compensation pin is used for frequency compensation, current limiting and soft start. It is the output of the error amplifier and the input of the current comparator. Loop frequency compensation can be performed with an (See Datasheet)", 2 FB (in) "The feedback pin is used for positive output voltage sensing and oscillator frequency shifting. It is the inverting input to the error amplifier. The noninverting input of this amplifier is internally tied to a 1.245V (See Datasheet)", 3 NFB (in), 4 S/S (in) "Shutdown and Synchronization Pin. The S/S pin is logic level compatible. Shutdown is active low and the shutdown threshold is typically 1.3V. For normal operation, pull the S/S pin high, tie it to VIN or leave it floating. (See Datasheet)", 5 VIN (power) "Bypass input supply pin with 10uF or more. The part goes into undervoltage lockout when VIN drops below 2.5V. Undervoltage lockout stops switching and pulls the VC pin low.", 6 GND S (power) "The ground sense pin is a ¡°clean¡± ground. The internal reference, error amplifier and negative feedback amplifier are referred to the ground sense pin. Connect it to ground. Keep the ground path connection to the out(See Datasheet)", 7 GND (power) "The ground pin is the emitter connection of the power switch and has large currents flowing through it. It should be connected directly to a good quality ground plane.", 8 VSW (power) "The switch pin is the collector of the power switch and has large currents flowing through it. Keep the traces to the switching components as short as possible to minimize radiation and voltage spikes."

## LT1373CS8
designator U?
250 kHz Low Supply Current High Efficiency 1.5 A Switching Regulator, 8-pin SOIC (S8-8), 0 to 125 degC; Manufacturer: Linear Technology; PartNumber: LT1373CS8; Number of Outputs: 1; PackageReference: S8-8; PackageDescription: 8-Pin Plastic Small Outline (Narrow .150 Inch), Body 4.9 x 3.9 mm, Pitch 1.27 mm; Supplier 1: Digi-Key; Supplier Part Number 1: LT1373CS8-ND; RoHS: FALSE
footprint LT-S8-8_N (SOIC, 8-Leads, Body 5x4mm, Pitch 1.27mm, IPC Medium Density)
footprint LT-S8-8_L (SOIC, 8-Leads, Body 5x4mm, Pitch 1.27mm, IPC High Density)
footprint LT-S8-8_M (SOIC, 8-Leads, Body 5x4mm, Pitch 1.27mm, IPC Low Density)
pins: 1 VC "The compensation pin is used for frequency compensation, current limiting and soft start. It is the output of the error amplifier and the input of the current comparator. Loop frequency compensation can be performed with an (See Datasheet)", 2 FB (in) "The feedback pin is used for positive output voltage sensing and oscillator frequency shifting. It is the inverting input to the error amplifier. The noninverting input of this amplifier is internally tied to a 1.245V (See Datasheet)", 3 NFB (in), 4 S/S (in) "Shutdown and Synchronization Pin. The S/S pin is logic level compatible. Shutdown is active low and the shutdown threshold is typically 1.3V. For normal operation, pull the S/S pin high, tie it to VIN or leave it floating. (See Datasheet)", 5 VIN (power) "Bypass input supply pin with 10uF or more. The part goes into undervoltage lockout when VIN drops below 2.5V. Undervoltage lockout stops switching and pulls the VC pin low.", 6 GND S (power) "The ground sense pin is a ¡°clean¡± ground. The internal reference, error amplifier and negative feedback amplifier are referred to the ground sense pin. Connect it to ground. Keep the ground path connection to the out(See Datasheet)", 7 GND (power) "The ground pin is the emitter connection of the power switch and has large currents flowing through it. It should be connected directly to a good quality ground plane.", 8 VSW (power) "The switch pin is the collector of the power switch and has large currents flowing through it. Keep the traces to the switching components as short as possible to minimize radiation and voltage spikes."

## LT1373CS8#PBF
designator U?
250 kHz Low Supply Current High Efficiency 1.5 A Switching Regulator, 8-pin SOIC (S8-8), 0 to 125 degC, Pb-Free; Manufacturer: Linear Technology; PartNumber: LT1373CS8#PBF; Number of Outputs: 1; PackageReference: S8-8; PackageDescription: 8-Pin Plastic Small Outline (Narrow .150 Inch), Body 4.9 x 3.9 mm, Pitch 1.27 mm; Supplier 1: Digi-Key; Supplier Part Number 1: LT1373CS8#PBF-ND; RoHS: TRUE
footprint LT-S8-8_N (SOIC, 8-Leads, Body 5x4mm, Pitch 1.27mm, IPC Medium Density)
footprint LT-S8-8_L (SOIC, 8-Leads, Body 5x4mm, Pitch 1.27mm, IPC High Density)
footprint LT-S8-8_M (SOIC, 8-Leads, Body 5x4mm, Pitch 1.27mm, IPC Low Density)
pins: 1 VC "The compensation pin is used for frequency compensation, current limiting and soft start. It is the output of the error amplifier and the input of the current comparator. Loop frequency compensation can be performed with an (See Datasheet)", 2 FB (in) "The feedback pin is used for positive output voltage sensing and oscillator frequency shifting. It is the inverting input to the error amplifier. The noninverting input of this amplifier is internally tied to a 1.245V (See Datasheet)", 3 NFB (in), 4 S/S (in) "Shutdown and Synchronization Pin. The S/S pin is logic level compatible. Shutdown is active low and the shutdown threshold is typically 1.3V. For normal operation, pull the S/S pin high, tie it to VIN or leave it floating. (See Datasheet)", 5 VIN (power) "Bypass input supply pin with 10uF or more. The part goes into undervoltage lockout when VIN drops below 2.5V. Undervoltage lockout stops switching and pulls the VC pin low.", 6 GND S (power) "The ground sense pin is a ¡°clean¡± ground. The internal reference, error amplifier and negative feedback amplifier are referred to the ground sense pin. Connect it to ground. Keep the ground path connection to the out(See Datasheet)", 7 GND (power) "The ground pin is the emitter connection of the power switch and has large currents flowing through it. It should be connected directly to a good quality ground plane.", 8 VSW (power) "The switch pin is the collector of the power switch and has large currents flowing through it. Keep the traces to the switching components as short as possible to minimize radiation and voltage spikes."

## LT1373CS8#TR
designator U?
250 kHz Low Supply Current High Efficiency 1.5 A Switching Regulator, 8-pin SOIC (S8-8), 0 to 125 degC, Tape and Reel; Manufacturer: Linear Technology; PartNumber: LT1373CS8#TR; Number of Outputs: 1; PackageReference: S8-8; PackageDescription: 8-Pin Plastic Small Outline (Narrow .150 Inch), Body 4.9 x 3.9 mm, Pitch 1.27 mm; Supplier 1: Digi-Key; Supplier Part Number 1: LT1373CS8#TR-ND; RoHS: FALSE
footprint LT-S8-8_N (SOIC, 8-Leads, Body 5x4mm, Pitch 1.27mm, IPC Medium Density)
footprint LT-S8-8_L (SOIC, 8-Leads, Body 5x4mm, Pitch 1.27mm, IPC High Density)
footprint LT-S8-8_M (SOIC, 8-Leads, Body 5x4mm, Pitch 1.27mm, IPC Low Density)
pins: 1 VC "The compensation pin is used for frequency compensation, current limiting and soft start. It is the output of the error amplifier and the input of the current comparator. Loop frequency compensation can be performed with an (See Datasheet)", 2 FB (in) "The feedback pin is used for positive output voltage sensing and oscillator frequency shifting. It is the inverting input to the error amplifier. The noninverting input of this amplifier is internally tied to a 1.245V (See Datasheet)", 3 NFB (in), 4 S/S (in) "Shutdown and Synchronization Pin. The S/S pin is logic level compatible. Shutdown is active low and the shutdown threshold is typically 1.3V. For normal operation, pull the S/S pin high, tie it to VIN or leave it floating. (See Datasheet)", 5 VIN (power) "Bypass input supply pin with 10uF or more. The part goes into undervoltage lockout when VIN drops below 2.5V. Undervoltage lockout stops switching and pulls the VC pin low.", 6 GND S (power) "The ground sense pin is a ¡°clean¡± ground. The internal reference, error amplifier and negative feedback amplifier are referred to the ground sense pin. Connect it to ground. Keep the ground path connection to the out(See Datasheet)", 7 GND (power) "The ground pin is the emitter connection of the power switch and has large currents flowing through it. It should be connected directly to a good quality ground plane.", 8 VSW (power) "The switch pin is the collector of the power switch and has large currents flowing through it. Keep the traces to the switching components as short as possible to minimize radiation and voltage spikes."